# Altium integrated library Analog Devices Data Converters Analog-to-Digital Converters.IntLib: 2400 symbols (part 334 of 338)
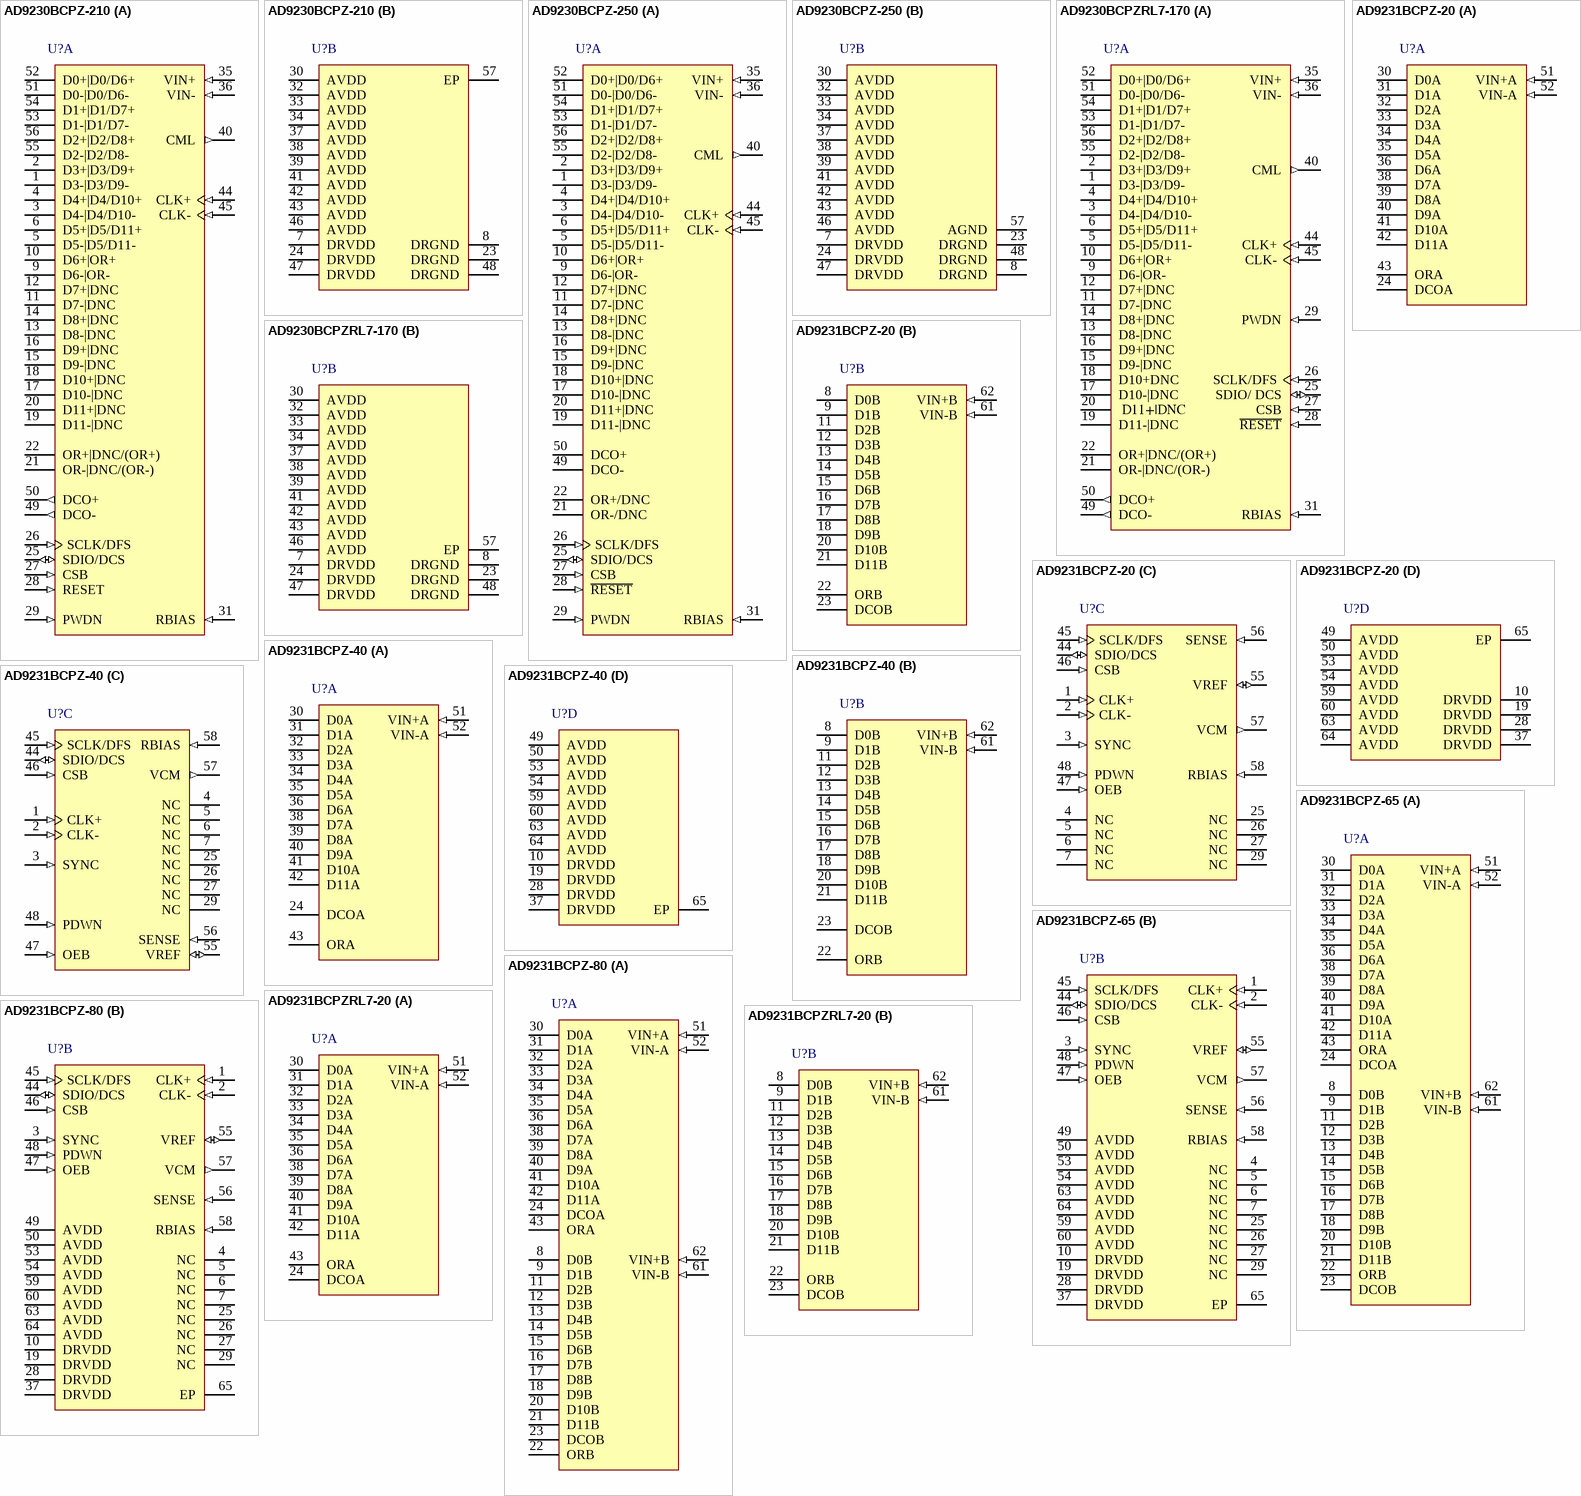
[diagram p436: symbols AD9230BCPZ-210 to AD9231BCPZRL7-20]

## AD9230BCPZ-210
designator U?
Single 12-Bit Analog-to-Digital Converter with LVDS, Parallel Interface, 1.8 V 210MSPS, -40 to +85 degC, CP-56-2, Pb-Free, Tray; Part Number: AD9230-210; Manufacturer: Analog Devices; Resolution (Bits): 12; Channels: 1; Throughput Rate (SPS): 210M; DatasheetVersion: Rev.0; PackageVersion: 112805-0; PackageReference: CP-56-2; PackageDescription: 56-Lead Lead Frame Chip Scale Package [LFCSP_VQ] 8 x 8 mm Body, Very Thin Quad; Interface: LVDS, Par; RoHS: Y; Packing: Tray; Mounting Technology: Surface Mount; Code_JEDEC: MO-220-VLLD-2; ComponentLink1Description: Manufacturer URL; ComponentLink1URL: http://www.analog.com/en/index.html; ComponentLink2Description: Datasheet; ComponentLink2URL: http://www.analog.com/static/imported-files/data_sheets/AD9230.pdf; ComponentLink3Description: Package Specification; ComponentLink3URL: http://www.analog.com/static/imported-files/packages/PKG_PDF/LFCSP(CP)/CP-56/CP_56_2.pdf; ComponentLink4Description: Product URL; ComponentLink4URL: http://www.analog.com/en/analog-to-digital-converters/ad-converters/ad9230/products/product.html
footprint CP-56-2_N (QFN, 56-Leads, Body 8x8mm, Pitch 0.5mm, Thermal Pad 4.3x4.3mm, IPC Medium Density)
footprint CP-56-2_L (QFN, 56-Leads, Body 8x8mm, Pitch 0.5mm, Thermal Pad 4.3x4.3mm, IPC High Density)
footprint CP-56-2_M (QFN, 56-Leads, Body 8x8mm, Pitch 0.5mm, Thermal Pad 4.3x4.3mm, IPC Low Density)
part A pins: 1 D3-|D3/D9- (hiz), 2 D3+|D3/D9+ (hiz), 3 D4-|D4/D10- (hiz), 4 D4+|D4/D10+ (hiz), 5 D5-|D5/D11- (hiz), 6 D5+|D5/D11+ (hiz), 9 D6-|OR- (hiz), 10 D6+|OR+ (hiz), 11 D7-|DNC (hiz), 12 D7+|DNC (hiz), 13 D8-|DNC (hiz), 14 D8+|DNC (hiz), 15 D9-|DNC (hiz), 16 D9+|DNC (hiz), 17 D10-|DNC (hiz), 18 D10+|DNC (hiz), 19 D11-|DNC (hiz), 20 D11+|DNC (hiz), 21 OR-|DNC/(OR-) (hiz), 22 OR+|DNC/(OR+) (hiz), 25 SDIO/DCS (io) "Serial Port Interface (SPI®) Data Input/Output (Serial Port Mode); Duty Cycle Stabilizer Select (External Pin Mode).", 26 SCLK/DFS (in) "Serial Port Interface Clock (Serial Port Mode); Data Format Select Pin (External Pin Mode).", 27 CSB (in) "Serial Port Chip Select (Active Low).", 28 RESET (in) "CMOS-Compatible Chip Reset (Active Low).", 29 PWDN (in) "Chip Power-Down.", 31 RBIAS (in) "Set Pin for Chip Bias Current. (Place 1% 10 kO resistor terminated to ground.) Nominally 0.5 V.", 35 VIN+ (in) "Analog Input--True.", 36 VIN- (in) "Analog Input--Complement.", 40 CML (out) "Common-Mode Output Pin. Enabled through the SPI, this pin provides a reference for the optimized internal bias voltage for VIN+/VIN-.", 44 CLK+ (in) "Clock Input--True.", 45 CLK- (in) "Clock Input--Complement.", 49 DCO- (out) "Data Clock Output--Complement.", 50 DCO+ (out) "Data Clock Output--True.", 51 D0-|D0/D6- (hiz), 52 D0+|D0/D6+ (hiz), 53 D1-|D1/D7- (hiz), 54 D1+|D1/D7+ (hiz), 55 D2-|D2/D8- (hiz), 56 D2+|D2/D8+ (hiz)
part B pins: 7 DRVDD (power) "1.8 V Digital Output Supply.", 8 DRGND (power) "Digital Output Ground.", 23 DRGND (power) "Digital Output Ground.", 24 DRVDD (power) "1.8 V Digital Output Supply.", 30 AVDD (power) "1.8 V Analog Supply.", 32 AVDD (power) "1.8 V Analog Supply.", 33 AVDD (power) "1.8 V Analog Supply.", 34 AVDD (power) "1.8 V Analog Supply.", 37 AVDD (power) "1.8 V Analog Supply.", 38 AVDD (power) "1.8 V Analog Supply.", 39 AVDD (power) "1.8 V Analog Supply.", 41 AVDD (power) "1.8 V Analog Supply.", 42 AVDD (power) "1.8 V Analog Supply.", 43 AVDD (power) "1.8 V Analog Supply.", 46 AVDD (power) "1.8 V Analog Supply.", 47 DRVDD (power) "1.8 V Digital Output Supply.", 48 DRGND (power) "Digital Output Ground.", 57 EP (power) "Analog Ground."

## AD9230BCPZ-250
designator U?
Single 12-Bit Analog-to-Digital Converter with LVDS, Parallel Interface, 1.8 V 250MSPS, -40 to +85 degC, CP-56-2, Pb-Free, Tray; Part Number: AD9230-250; Manufacturer: Analog Devices; Resolution (Bits): 12; Channels: 1; Throughput Rate (SPS): 250M; DatasheetVersion: Rev.0; PackageVersion: 112805-0; PackageReference: CP-56-2; PackageDescription: 56-Lead Lead Frame Chip Scale Package [LFCSP_VQ] 8 x 8 mm Body, Very Thin Quad; Interface: LVDS, Par; RoHS: Y; Packing: Tray; Mounting Technology: Surface Mount; Code_JEDEC: MO-220-VLLD-2; ComponentLink1Description: Manufacturer URL; ComponentLink1URL: http://www.analog.com/en/index.html; ComponentLink2Description: Datasheet; ComponentLink2URL: http://www.analog.com/static/imported-files/data_sheets/AD9230.pdf; ComponentLink3Description: Package Specification; ComponentLink3URL: http://www.analog.com/static/imported-files/packages/PKG_PDF/LFCSP(CP)/CP-56/CP_56_2.pdf; ComponentLink4Description: Product URL; ComponentLink4URL: http://www.analog.com/en/analog-to-digital-converters/ad-converters/ad9230/products/product.html
footprint CP-56-2_N (QFN, 56-Leads, Body 8x8mm, Pitch 0.5mm, Thermal Pad 4.3x4.3mm, IPC Medium Density)
footprint CP-56-2_L (QFN, 56-Leads, Body 8x8mm, Pitch 0.5mm, Thermal Pad 4.3x4.3mm, IPC High Density)
footprint CP-56-2_M (QFN, 56-Leads, Body 8x8mm, Pitch 0.5mm, Thermal Pad 4.3x4.3mm, IPC Low Density)
part A pins: 1 D3-|D3/D9- (hiz) "D3/D9 Complement Output Bit.", 2 D3+|D3/D9+ (hiz) "D3/D9 True Output Bit.", 3 D4-|D4/D10- (hiz) "D4/D10 Complement Output Bit.", 4 D4+|D4/D10+ (hiz) "D4/D10 True Output Bit.", 5 D5-|D5/D11- (hiz) "D5/D11 Complement Output Bit (MSB).", 6 D5+|D5/D11+ (hiz) "D5/D11 True Output Bit (MSB).", 9 D6-|OR- (hiz), 10 D6+|OR+ (hiz), 11 D7-|DNC (hiz), 12 D7+|DNC (hiz), 13 D8-|DNC (hiz), 14 D8+|DNC (hiz), 15 D9-|DNC (hiz), 16 D9+|DNC (hiz), 17 D10-|DNC (hiz), 18 D10+|DNC (hiz), 19 D11-|DNC (hiz), 20 D11+|DNC (hiz), 21 OR-/DNC (hiz), 22 OR+/DNC (hiz), 25 SDIO/DCS (io) "Serial Port Interface (SPI) Data Input/Output (Serial Port Mode); Duty Cycle Stabilizer Select (External Pin Mode).", 26 SCLK/DFS (in) "Serial Port Interface Clock (Serial Port Mode); Data Format Select Pin (External Pin Mode).", 27 CSB (in) "Serial Port Chip Select (Active Low).", 28 ~{RESET} (in) "CMOS-Compatible Chip Reset (Active Low).", 29 PWDN (in) "Chip Power-Down.", 31 RBIAS (in) "Set Pin for Chip Bias Current. (Place 1% 10 k ohm resistor terminated to ground.) Nominally 0.5 V.", 35 VIN+ (in) "Analog Input--True.", 36 VIN- (in) "Analog Input--Complement.", 40 CML (out) "Common-Mode Output Pin. Enabled through the SPI, this pin provides a reference for the optimized internal bias voltage for VIN+/VIN-.", 44 CLK+ (in) "Clock Input--True.", 45 CLK- (in) "Clock Input--Complement.", 49 DCO- (hiz) "Data Clock Output--Complement.", 50 DCO+ (hiz) "Data Clock Output--True.", 51 D0-|D0/D6- (hiz) "D0/D6 Complement Output Bit (LSB).", 52 D0+|D0/D6+ (hiz) "D0/D6 True Output Bit (LSB).", 53 D1-|D1/D7- (hiz) "D1/D7 Complement Output Bit.", 54 D1+|D1/D7+ (hiz) "D1/D7 True Output Bit.", 55 D2-|D2/D8- (hiz) "D2/D8 Complement Output Bit.", 56 D2+|D2/D8+ (hiz) "D2/D8 True Output Bit."
part B pins: 7 DRVDD (power) "1.8 V Digital Output Supply.", 8 DRGND (power) "Digital Output Ground.", 23 DRGND (power) "Digital Output Ground.", 24 DRVDD (power) "1.8 V Digital Output Supply.", 30 AVDD (power) "1.8 V Analog Supply.", 32 AVDD (power) "1.8 V Analog Supply.", 33 AVDD (power) "1.8 V Analog Supply.", 34 AVDD (power) "1.8 V Analog Supply.", 37 AVDD (power) "1.8 V Analog Supply.", 38 AVDD (power) "1.8 V Analog Supply.", 39 AVDD (power) "1.8 V Analog Supply.", 41 AVDD (power) "1.8 V Analog Supply.", 42 AVDD (power) "1.8 V Analog Supply.", 43 AVDD (power) "1.8 V Analog Supply.", 46 AVDD (power) "1.8 V Analog Supply.", 47 DRVDD (power) "1.8 V Digital Output Supply.", 48 DRGND (power) "Digital Output Ground.", 57 AGND (power) "Analog Ground."

## AD9230BCPZRL7-170
designator U?
Single 12-Bit Analog-to-Digital Converter with LVDS, Parallel Interface, 1.8 V, 170MSPS, -40 to +85 degC, CP-56-2, Pb-Free, Reel; Part Number: AD9230-170; Manufacturer: Analog Devices; Resolution (Bits): 12; Channels: 1; Throughput Rate (SPS): 170M; DatasheetVersion: Rev.0; PackageVersion: 112805-0; PackageReference: CP-56-2; PackageDescription: 56-Lead Lead Frame Chip Scale Package [LFCSP_VQ] 8 x 8 mm Body, Very Thin Quad; Interface: LVDS, Par; RoHS: Y; Packing: Reel; Mounting Technology: Surface Mount; Code_JEDEC: MO-220-VLLD-2; ComponentLink1Description: Manufacturer URL; ComponentLink1URL: http://www.analog.com/en/index.html; ComponentLink2Description: Datasheet; ComponentLink2URL: http://www.analog.com/static/imported-files/data_sheets/AD9230.pdf; ComponentLink3Description: Package Specification; ComponentLink3URL: http://www.analog.com/static/imported-files/packages/PKG_PDF/LFCSP(CP)/CP-56/CP_56_2.pdf; ComponentLink4Description: Product URL; ComponentLink4URL: http://www.analog.com/en/analog-to-digital-converters/ad-converters/ad9230/products/product.html
footprint CP-56-2_N (QFN, 56-Leads, Body 8x8mm, Pitch 0.5mm, Thermal Pad 4.3x4.3mm, IPC Medium Density)
footprint CP-56-2_L (QFN, 56-Leads, Body 8x8mm, Pitch 0.5mm, Thermal Pad 4.3x4.3mm, IPC High Density)
footprint CP-56-2_M (QFN, 56-Leads, Body 8x8mm, Pitch 0.5mm, Thermal Pad 4.3x4.3mm, IPC Low Density)
part A pins: 1 D3-|D3/D9- (hiz) "D3 Complement Output Bit.", 2 D3+|D3/D9+ (hiz) "D3 True Output Bit.", 3 D4-|D4/D10- (hiz) "D4 Complement Output Bit.", 4 D4+|D4/D10+ (hiz) "D4 True Output Bit.", 5 D5-|D5/D11- (hiz) "D5 Complement Output Bit.", 6 D5+|D5/D11+ (hiz) "D5 True Output Bit.", 9 D6-|OR- (hiz) "D6 Complement Output Bit.", 10 D6+|OR+ (hiz) "D6 True Output Bit.", 11 D7-|DNC (hiz) "D7 Complement Output Bit.", 12 D7+|DNC (hiz) "D7 True Output Bit.", 13 D8-|DNC (hiz) "D8 Complement Output Bit.", 14 D8+|DNC (hiz) "D8 True Output Bit.", 15 D9-|DNC (hiz) "D9 Complement Output Bit.", 16 D9+|DNC (hiz) "D9 True Output Bit.", 17 D10-|DNC (hiz) "D10 Complement Output Bit.", 18 D10+DNC (hiz) "D10 True Output Bit.", 19 D11-|DNC (hiz) "D11 Complement Output Bit (MSB).", 20 D11+|DNC (hiz) "D11 True Output Bit (MSB).", 21 OR-|DNC/(OR-) (hiz) "Overrange Complement Output Bit.", 22 OR+|DNC/(OR+) (hiz) "Overrange True Output Bit.", 25 SDIO/ DCS (io) "Serial Port Interface (SPI®) Data Input/Output (Serial Port Mode); Duty Cycle Stabilizer Select (External Pin Mode).", 26 SCLK/DFS (in) "Serial Port Interface Clock (Serial Port Mode); Data Format Select Pin (External Pin Mode).", 27 CSB (in) "Serial Port Chip Select (Active Low).", 28 ~{RESET} (in) "CMOS-Compatible Chip Reset (Active Low).", 29 PWDN (in) "Chip Power-Down.", 31 RBIAS (in) "Set Pin for Chip Bias Current. (Place 1% 10 kO resistor terminated to ground.) Nominally 0.5 V.", 35 VIN+ (in) "Analog Input--True.", 36 VIN- (in) "Analog Input--Complement.", 40 CML (out) "Common-Mode Output Pin. Enabled through the SPI, this pin provides a reference for the  optimized internal bias voltage for VIN+/VIN-.", 44 CLK+ (in) "Clock Input--True.", 45 CLK- (in) "Clock Input--Complement.", 49 DCO- (out) "Data Clock Output--Complement.", 50 DCO+ (out) "Data Clock Output--True.", 51 D0-|D0/D6- (hiz) "D0 Complement Output Bit (LSB).", 52 D0+|D0/D6+  (hiz) "D0 True Output Bit (LSB).", 53 D1-|D1/D7- (hiz) "D1 Complement Output Bit.", 54 D1+|D1/D7+ (hiz) "D1 True Output Bit.", 55 D2-|D2/D8- (hiz) "D2 Complement Output Bit.", 56 D2+|D2/D8+ (hiz) "D2 True Output Bit."
part B pins: 7 DRVDD (power) "1.8 V Digital Output Supply.", 8 DRGND (power) "Digital Output Ground.", 23 DRGND (power) "Digital Output Ground.", 24 DRVDD (power) "1.8 V Digital Output Supply.", 30 AVDD (power) "1.8 V Analog Supply.", 32 AVDD (power) "1.8 V Analog Supply.", 33 AVDD (power) "1.8 V Analog Supply.", 34 AVDD (power) "1.8 V Analog Supply.", 37 AVDD (power) "1.8 V Analog Supply.", 38 AVDD (power) "1.8 V Analog Supply.", 39 AVDD (power) "1.8 V Analog Supply.", 41 AVDD (power) "1.8 V Digital Output Supply.", 42 AVDD (power) "1.8 V Digital Output Supply.", 43 AVDD (power) "1.8 V Digital Output Supply.", 46 AVDD (power) "1.8 V Digital Output Supply.", 47 DRVDD (power) "1.8 V Digital Output Supply.", 48 DRGND (power) "Digital Output Ground.", 57 EP (power) "Analog Ground."